# Altium footprint library GRAPHICAL_SIGN.PcbLib: 28 footprints (part 1 of 2)
Each footprint in its own frame and in the unit in brackets; x right, y up, seen from the top. Pads: shape width x height; smd on the part's side, far side on the other; paste and mask are expansions set on the pad; w line width, h text height; cw(c..) or ccw(c..) is an arc to the next point about the centre after c.
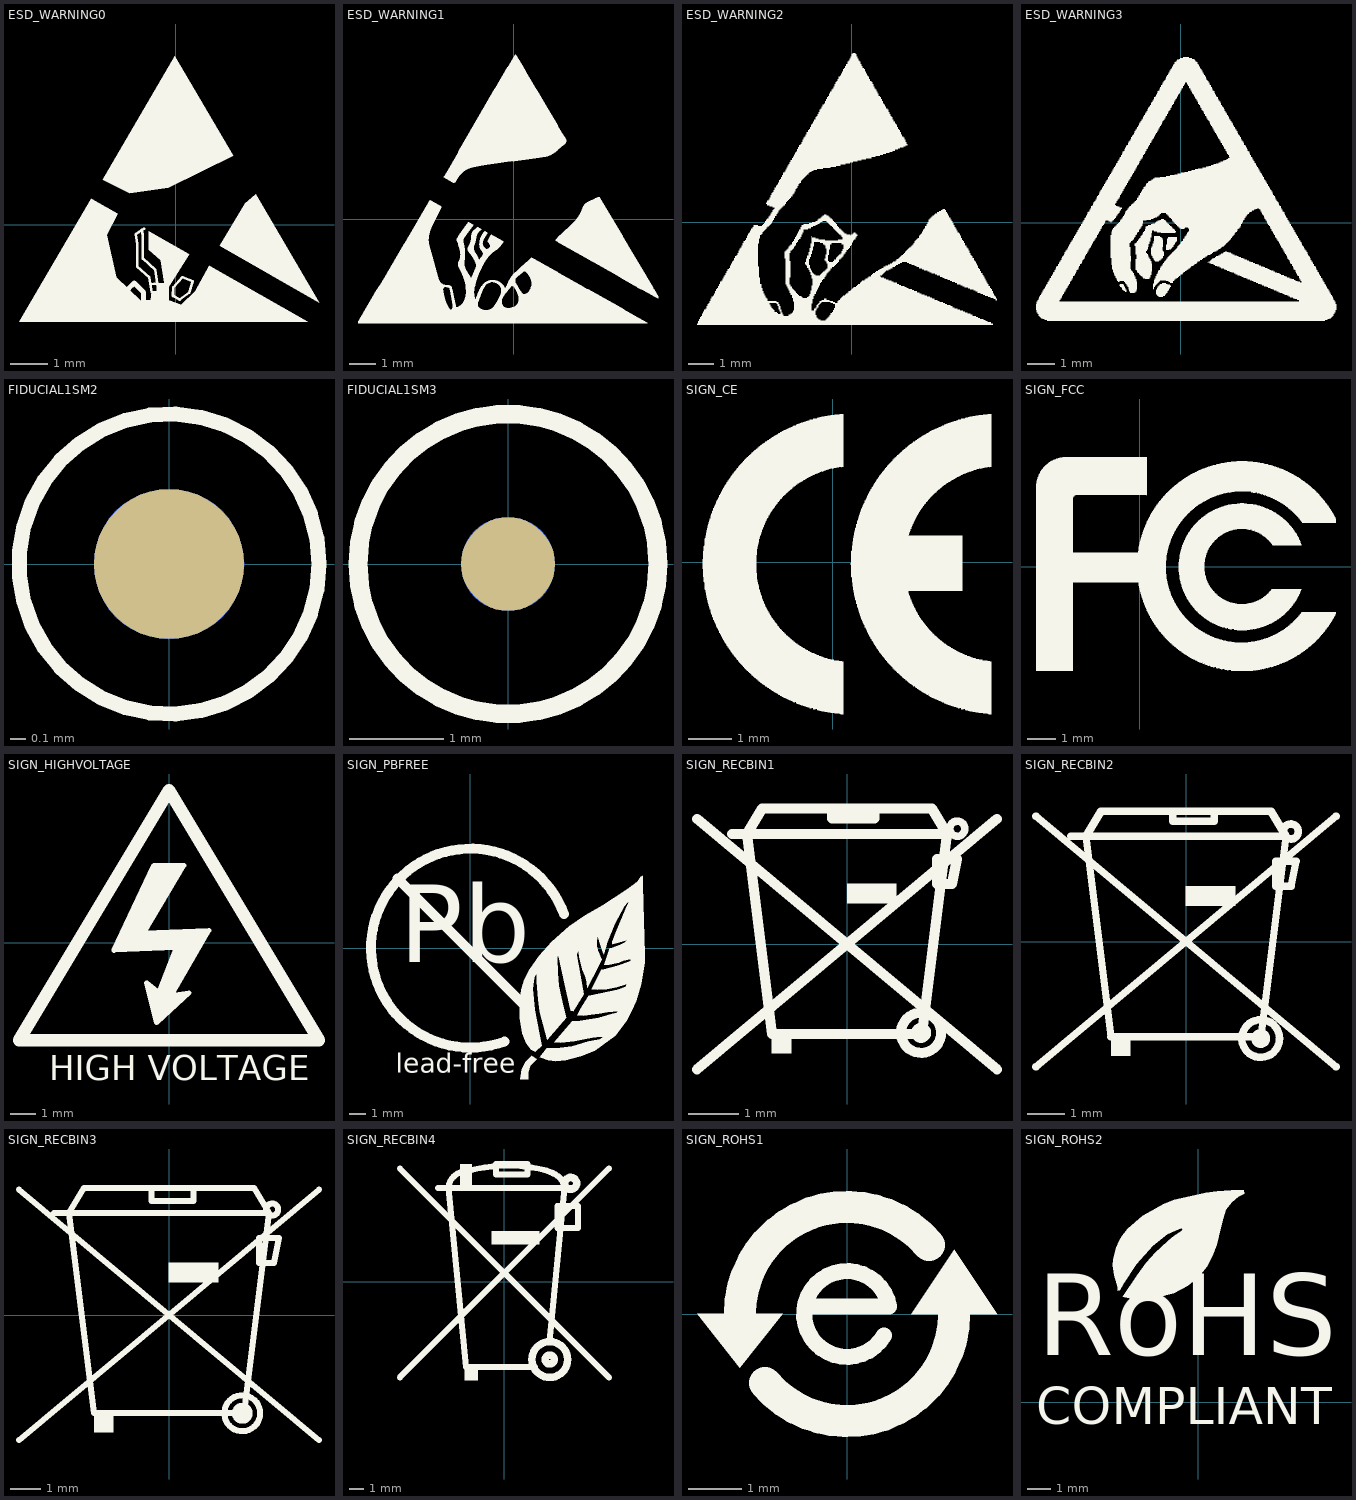
[diagram p0: the footprints below, top view; thin cyan lines are the x and y axes]

## ESD_WARNING0 [mm] "Electrostatic Discharge Warning, 8x7mm"
Top Overlay:
  region: -0.025,4.483 -1.936,1.203 -1.214,0.842 -0.196,0.984 1.527,1.834 -0.023,4.482
  region: 1.168,-0.564 3.812,-2.07 2.125,0.815 1.849,0.568 1.173,-0.552
  region: -2.242,0.693 -1.543,0.298 -1.83,-0.26 -1.583,-1.393 -0.932,-2.021 -0.658,-1.996 -0.638,-1.797 -0.5,-1.784 -0.489,-1.56 -0.304,-1.542 -0.397,-0.95 -0.717,-0.666 -0.717,-0.173 0.363,-0.787 -0.18,-1.647 -0.18,-2.003 0.146,-2.133 0.523,-1.772 0.894,-1.089 3.517,-2.582 -4.164,-2.582 -2.24,0.694
  lines w0.071: -0.893,-0.136 -0.871,-0.299 -0.871,-0.902 -0.542,-1.196 -0.489,-1.56 ; -0.843,-0.102 -1.058,-0.251 -1.024,-0.509 -1.024,-1.114 -0.697,-1.405 -0.638,-1.797 -0.457,-1.781 -0.489,-1.56 ; -0.672,-1.578 -0.489,-1.56 ; -0.068,-1.893 0.112,-1.989 0.361,-1.802 0.452,-1.501 0.181,-1.393 -0.061,-1.661 -0.068,-1.893
  lines w0.13: -1.257,-1.707 -1.1,-1.55 -0.85,-1.8 -0.85,-2

## ESD_WARNING1 [mm] "Electrostatic Discharge Warning, 10.3X11.6mm"
Top Overlay:
  drawing of 3 lines, arcs and shapes, not listed

## ESD_WARNING2 [mm] "Electrostatic Discharge Warning, 10.3X11.6mm"
Top Overlay:
  drawing of 1 lines, arcs and shapes, not listed

## ESD_WARNING3 [mm] "Electrostatic Discharge Warning, 9.6X11.1mm"
Top Overlay:
  drawing of 6 lines, arcs and shapes, not listed

## FIDUCIAL1SM2 [mm] "FIDUCIAL 1mm Pad, 2mm SolderMask"
pads (2):
  round 1 smd mask+0.5: ""(0,0)
  round 1 smd far side mask+0.5: ""(0,0)
Top Overlay:
  circle w0.1: c0,0 r1

## FIDUCIAL1SM3 [mm] "FIDUCIAL 1mm Pad, 3mm SolderMask"
pads (2):
  round 1 smd paste-1.016 mask+1: ""(0,0)
  round 1 smd far side paste-1.016 mask+1: ""(0,0)
Top Overlay:
  circle w0.2: c0,0 r1.6

## SIGN_CE [mm] "CE Compliant, 7x7mm"
Top Overlay:
  drawing of 2 lines, arcs and shapes, not listed

## SIGN_FCC [mm] "FCC Compliant, 7x7mm"
Top Overlay:
  drawing of 2 lines, arcs and shapes, not listed

## SIGN_HIGHVOLTAGE [mm] "SIGN, HIGH VOLTAGE HAZARD, 12X12.5mm"
Top Overlay:
  region: 0.6,3.1 -0.6,3.1 -2.2,-0.3 0.3,-0.2 -0.4,-2 -0.9,-1.6 -0.5,-3.2 0.8,-2 0.1,-2.1 1.6,0.5 -1,0.4
  lines w0.2: -2.2,-0.3 -0.6,3.1 0.6,3.1 -1,0.4 1.6,0.5 0.1,-2.1 0.8,-2 -0.5,-3.2 -0.9,-1.6 -0.4,-2 0.3,-0.2 -2.2,-0.3
  lines w0.5: -6,-3.9 6,-3.9 0,6.1 -6,-3.9
  text "HIGH VOLTAGE" at -4.8,-5.5 h1

## SIGN_PBFREE [mm] "SIGN, Lead-Free, 12X12mm"
Top Overlay:
  drawing of 4 lines, arcs and shapes, not listed
  text "Pb" at -4.3,-2.4 h8
  text "lead-free" at -4.5,-7.9 h2

## SIGN_RECBIN1 [mm] "SIGN, Recycle-bin, 6x5mm"
Top Overlay:
  circle w0.2: c1.477,-1.771 r0.1
  circle w0.2: c1.477,-1.771 r0.4
  circle w0.15: c2.2,2.3 r0.15
  region: 0,1.2 0.98,1.2 0.98,0.817 0,0.817
  region: -1.496,-1.798 -1.113,-1.798 -1.113,-2.181 -1.496,-2.181
  lines w0.2: -2.991,-2.498 2.991,2.498 ; -2.991,2.498 2.991,-2.498 ; -2.293,2.199 1.994,2.199 ; -0.3,2.617 -0.3,2.5 0.544,2.5 0.544,2.656 ; 1.994,2.199 1.496,-1.798 -1.496,-1.798 -1.994,2.199 -1.695,2.698 1.695,2.698 1.994,2.199 ; 1.795,1.2 1.795,1.699 2.193,1.699 2.094,1.2 1.795,1.2

## SIGN_RECBIN2 [mm] "SIGN, Recycle-bin, 8x7mm"
Top Overlay:
  circle w0.2: c1.977,-2.571 r0.15
  circle w0.2: c1.977,-2.571 r0.5
  circle w0.2: c2.777,2.929 r0.2
  region: -0.007,1.472 1.299,1.472 1.299,0.961 -0.007,0.961
  region: -2,-2.521 -1.491,-2.521 -1.491,-3.032 -2,-3.032
  lines w0.2: -3.993,-3.321 3.978,3.334 ; -3.993,3.334 3.978,-3.321 ; -3.063,2.803 2.649,2.803 ; -1.491,-2.521 -2,-2.521 ; -0.356,3.417 -0.356,3.2 0.744,3.2 0.744,3.456 ; -2,-2.521 -2.664,2.803 -2.266,3.468 2.251,3.468 2.649,2.803 ; -2,-2.521 1.985,-2.521 2.649,2.803 ; 2.384,1.472 2.384,2.137 2.915,2.137 2.782,1.472 2.384,1.472

## SIGN_RECBIN3 [mm] "SIGN, Recycle-bin, 10x8mm"
Top Overlay:
  circle w0.2: c3.432,3.529 r0.2
  circle w0.2: c2.432,-3.271 r0.6
  circle w0.3: c2.432,-3.271 r0.2
  region: -0.013,1.747 1.629,1.747 1.629,1.106 -0.013,1.106
  region: -2.516,-3.271 -1.877,-3.271 -1.877,-3.912 -2.516,-3.912
  lines w0.2: -5.02,-4.171 4.995,4.192 ; -5.02,4.192 4.995,-4.171 ; -3.852,3.419 3.326,3.419 ; -1.877,-3.271 -2.516,-3.271 ; -0.6,4.217 -0.6,3.817 0.8,3.817 0.8,4.256 ; -2.516,-3.271 -3.351,3.419 -2.85,4.256 2.825,4.256 3.326,3.419 ; -2.516,-3.271 2.491,-3.271 3.326,3.419 ; 2.992,1.747 2.992,2.583 3.659,2.583 3.493,1.747 2.992,1.747

## SIGN_RECBIN4 [mm] "SIGN, Recycle-bin, 14X14mm"
Top Overlay:
  circle w0.5: c3.041,-5.2 r1.2
  circle w0.5: c3.041,-5.2 r0.3
  circle w0.5: c4.441,6.6 r0.4
  rectangle: -2.959,6.3 -2.159,7.9
  rectangle: -2.659,-6.6 -1.759,-5.7
  rectangle: -0.859,2.5 2.341,3.4
  lines w0.4: -7,-6.4 7,7.6 ; -7,7.6 7,-6.4 ; -4.459,6.3 4.641,6.3 ; -3.759,6.2 cw(c-2.559,6.2) -2.969,7.328 ; -3.759,6.3 -2.559,-5.7 2.041,-5.7 ; -2.347,7.459 cw(c0.241,-2.2) 2.83,7.459 3.241,7.3 ; 3.012,-3.997 4.041,6.3 ; 3.252,7.278 cw(c2.841,6.15) 4.041,6.15 ; -0.559,7.2 1.541,7.2 1.541,7.9 -0.559,7.9 -0.559,7.2 ; 3.541,3.6 4.941,3.6 4.941,5.1 3.541,5.1 3.541,3.6

## SIGN_ROHS1 [mm] "SIGN, ROHS Compliant, 5.5x4.8mm"
Top Overlay:
  region: -2.8,0 -2,-1 -1.2,0
  region: 2.8,0 2,1.2 1.2,0
  lines w0.3: -0.661,0.139 0.788,0.139 ccw(c0,0) 0.693,-0.4
  lines w0.6: -2,0 cw(c0,0) 1.532,1.286 ; -1.532,-1.286 ccw(c0,0) 2,0

## SIGN_ROHS2 [mm] "SIGN, ROHS Compliant, 14X12mm"
Top Overlay:
  region: -3.26,4.52 -2.78,4.42 -2.36,4.42 -1.72,4.5 -1.06,4.68 -0.46,5 0.02,5.4 0.36,5.82 0.6,6.26 0.78,6.76 0.96,7.5 1.06,7.9 1.18,8.26 1.42,8.58 1.7,8.82 1.96,8.96 1.94,9.1 1.4,9.1 0.8,9.06 0.32,9 -1.04,8.7 -1.48,8.52 -2.4,8.02 -3.04,7.46 -3.28,7.14 -3.4,6.94 -3.54,6.64 -3.66,6.14 -3.68,5.88 -3.62,5.46 -3.46,4.94 -3.46,4.78 -3.38,4.8 -3.22,5.1 -2.68,5.92 -1.96,6.72 -1.34,7.22 -0.84,7.44 -0.72,7.48 -0.68,7.42 -0.72,7.36 -1.04,7.16 -1.3,6.94 -1.86,6.42 -2.24,6 -2.62,5.46
  text "COMPLIANT" at -6.98,-1.46 h2.7
  text "RoHS" at -6.957,0.849 h6